# Altium schematic symbol library GU900E.SchLib: 1 symbol
Pins are listed as number, name and electrical type; pins without a type are passive.

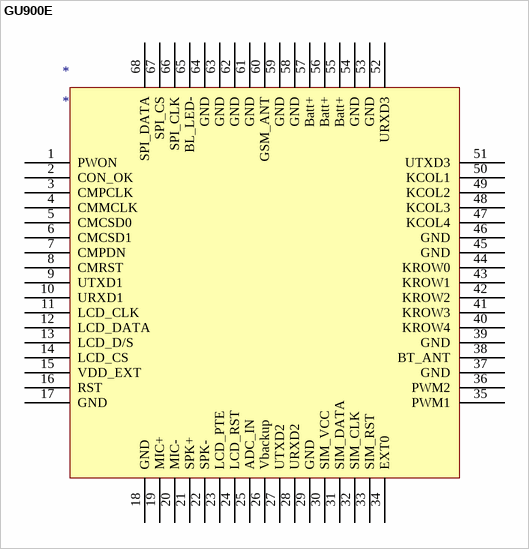
[diagram p0: symbol GU900E]

## GU900E
designator *
pins: 1 PWON, 2 CON_OK, 3 CMPCLK, 4 CMMCLK, 5 CMCSD0, 6 CMCSD1, 7 CMPDN, 8 CMRST, 9 UTXD1, 10 URXD1, 11 LCD_CLK, 12 LCD_DATA, 13 LCD_D/S, 14 LCD_CS, 15 VDD_EXT, 16 RST, 17 GND, 18 GND, 19 MIC+, 20 MIC-, 21 SPK+, 22 SPK-, 23 LCD_PTE, 24 LCD_RST, 25 ADC_IN, 26 Vbackup, 27 UTXD2, 28 URXD2, 29 GND, 30 SIM_VCC, 31 SIM_DATA, 32 SIM_CLK, 33 SIM_RST, 34 EXT0, 35 PWM1, 36 PWM2, 37 GND, 38 BT_ANT, 39 GND, 40 KROW4, 41 KROW3, 42 KROW2, 43 KROW1, 44 KROW0, 45 GND, 46 GND, 47 KCOL4, 48 KCOL3, 49 KCOL2, 50 KCOL1, 51 UTXD3, 52 URXD3, 53 GND, 54 GND, 55 Batt+, 56 Batt+, 57 Batt+, 58 GND, 59 GND, 60 GSM_ANT, 61 GND, 62 GND, 63 GND, 64 GND, 65 BL_LED-, 66 SPI_CLK, 67 SPI_CS, 68 SPI_DATA